# Altium footprint library SON50P300X80_HS-9N.PcbLib: 1 footprints
Each footprint in its own frame and in the unit in brackets; x right, y up, seen from the top. Pads: shape width x height; smd on the part's side, far side on the other; paste and mask are expansions set on the pad; w line width, h text height; cw(c..) or ccw(c..) is an arc to the next point about the centre after c.
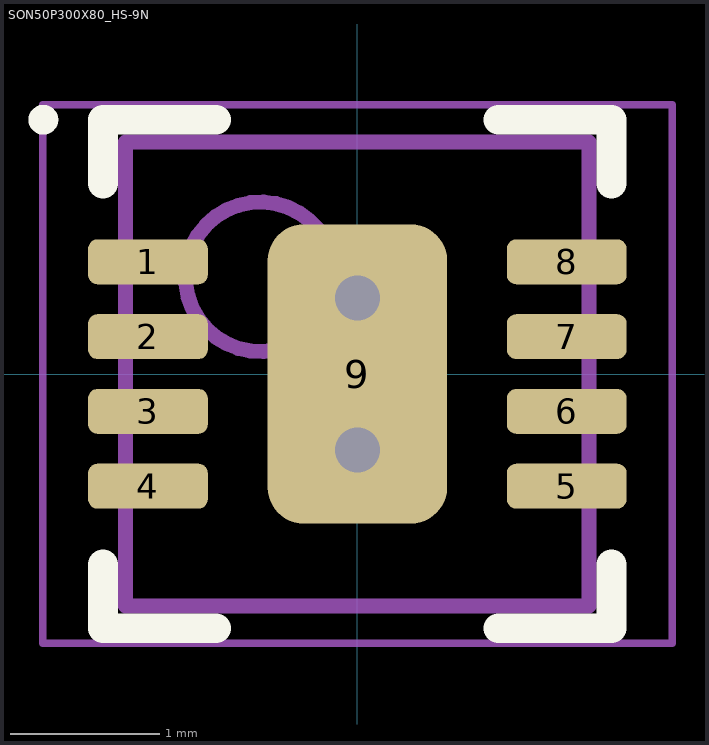
[diagram p0: the footprint, top view; thin cyan lines are the x and y axes]

## SON50P300X80_HS-9N [mm] "SON, 8-Leads, Body 3,00x3,00mm, Pitch 0,50mm, Thermal Pad 2,00x1,20mm, IPC Medium Density"
height 0.8
pads (9):
  rrect40% 0.8x0.3 smd: 1(-1.4,0.75) 2(-1.4,0.25) 3(-1.4,-0.25) 4(-1.4,-0.75) 5(1.4,-0.75) 6(1.4,-0.25) 7(1.4,0.25) 8(1.4,0.75)
  rrect40% 1.2x2 smd: 9(0,0)
via 0,-0.508 diameter 0.6 hole 0.3
via 0,0.508 diameter 0.6 hole 0.3
Top Overlay:
  circle w0.1: c-2.1,1.7 r0.05
  lines w0.2: -1.7,-1.275 -1.7,-1.7 -0.945,-1.7 ; -1.7,1.275 -1.7,1.7 -0.945,1.7 ; 0.945,-1.7 1.7,-1.7 1.7,-1.275 ; 0.945,1.7 1.7,1.7 1.7,1.275
Top Assembly:
  circle w0.1: c-0.65,0.65 r0.5
  lines w0.1: -1.55,-1.55 1.55,-1.55 1.55,1.55 -1.55,1.55 -1.55,-1.55
Mechanical 15:
  lines w0.05: -2.105,-1.8 2.105,-1.8 2.105,1.8 -2.105,1.8 -2.105,-1.8
  lines w0.1: -0.5,0 0.5,0 ; 0,-0.5 0,0.5
3D body "SON50P300X80_HS-9N.step": height 0.8, standoff 0, extent -1.6,-1.55 1.6,1.55